# Altium schematic symbol library 2929SQ-431GEC.SchLib: 1 symbol
Pins are listed as number, name and electrical type; pins without a type are passive.

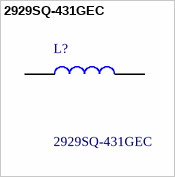
[diagram p0: symbol 2929SQ-431GEC]

## 2929SQ-431GEC
designator L?
RF inductor, air core, 2% tol, SMT, RoHS, halogen-free; Manufacturer_Name: COILCRAFT; Geometry.Height: 7.494mm; Mouser Part Number: 994-2929SQ-431GEC; Mouser Price/Stock: https://www.mouser.co.uk/ProductDetail/Coilcraft/2929SQ-431GEC?qs=zCSbvcPd3pY7luusLH9PgQ%3D%3D; Manufacturer_Part_Number: 2929SQ-431GEC; Datasheet Link: https://www.coilcraft.com/getmedia/a4eed406-a97e-4630-9d8e-771bb470867f/1515sq.pdf
footprint 2929SQ431GEC
pins: 1, 2